# Altium integrated library Analog Devices Data Converters Analog-to-Digital Converters.IntLib: 2404 symbols (part 73 of 346)
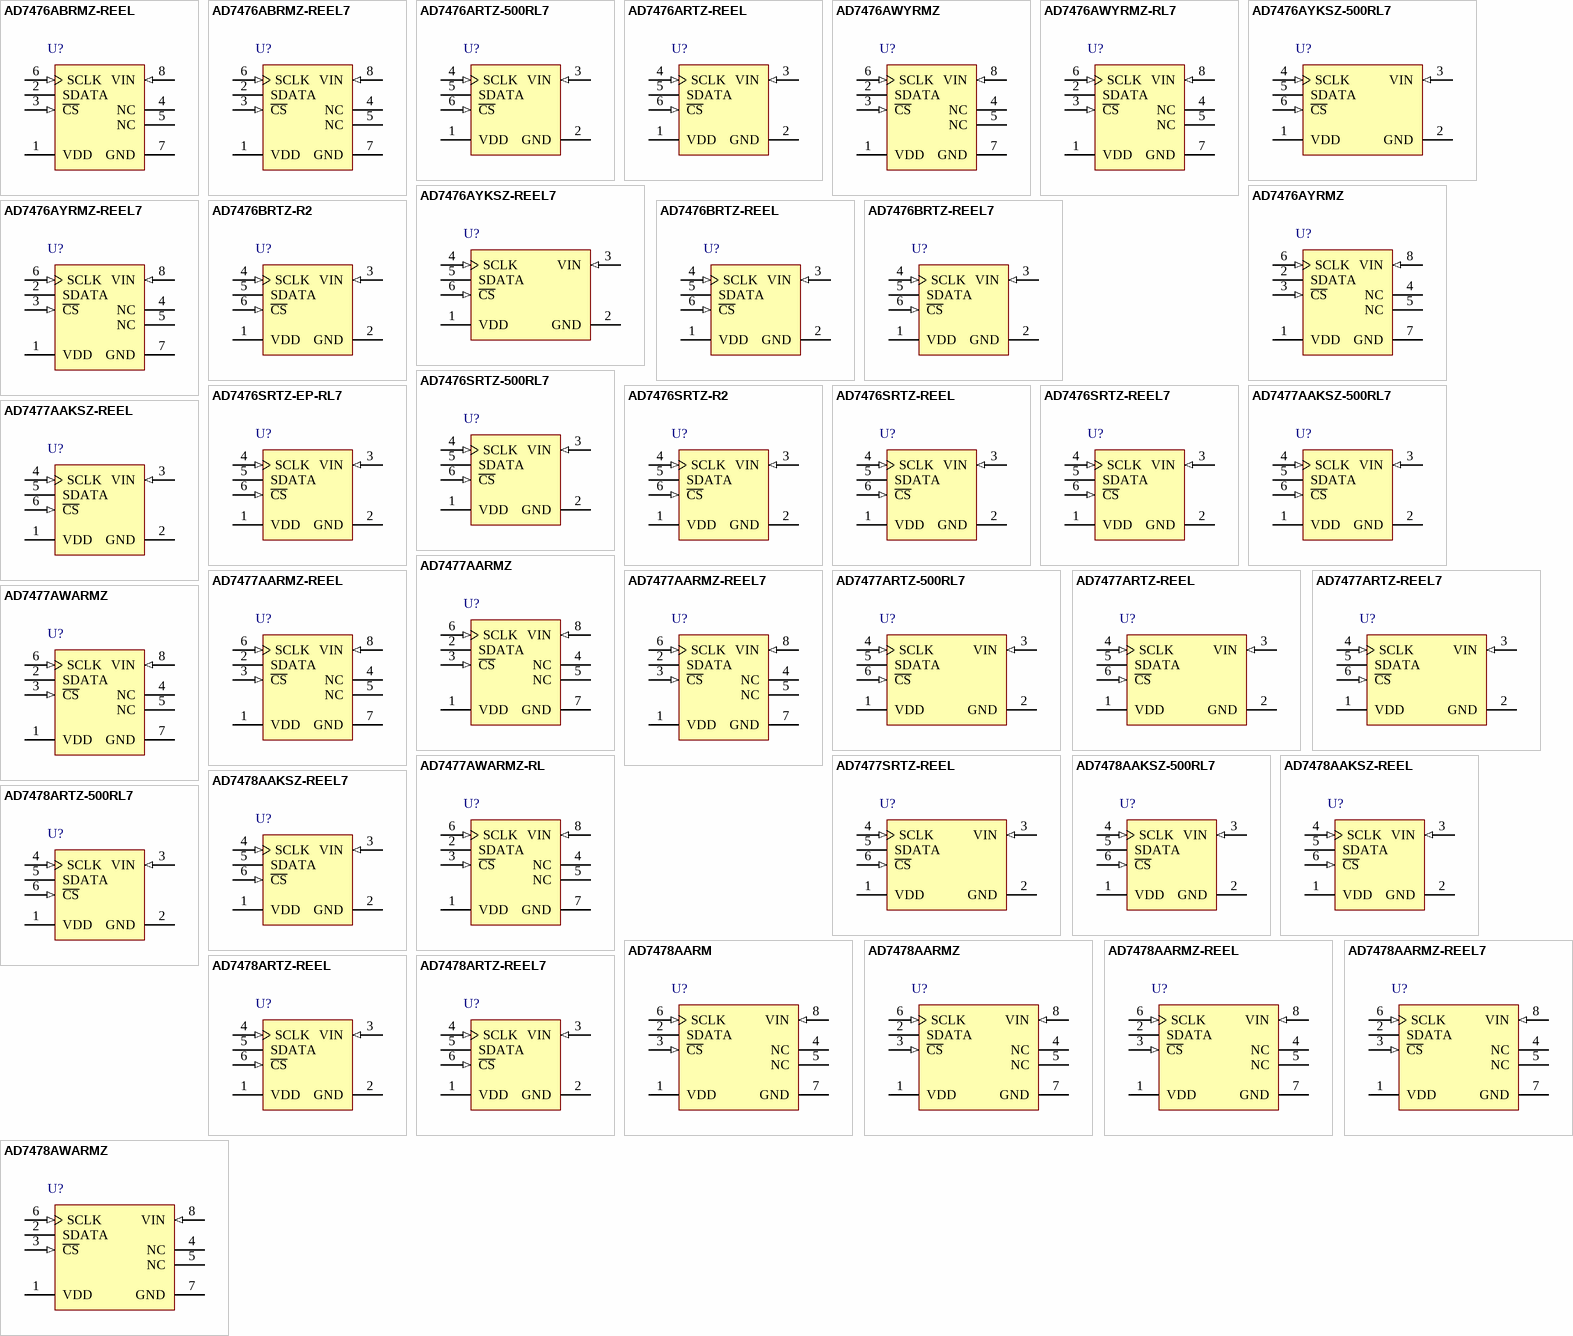
[diagram p294: symbols AD7476ABRMZ-REEL to AD7478AWARMZ]

## AD7476SRTZ-REEL7
designator U?
Single 12-Bit Analog-to-Digital Converter with Serial, SPI Interface, 1MSPS, -55 to +125 degC, RJ-6, Pb-Free, Reel; Generic Part Number: AD7476; Manufacturer: Analog Devices; PartNumber: AD7476SRTZ-REEL7; Resolution (Bits): 12; Channels: 1; Throughput Rate (SPS): 1M; Interface: Ser, SPI; DatasheetVersion: Rev.F; PackageVersion: 121608-A; PackageReference: RJ-6; PackageDescription: 6-Lead Small Outline Transistor Package [SOT-23]; Supplier 1: Digi-Key; Supplier Part Number 1: AD7476SRTZ-REEL7TR-ND; Supplier 2: Digi-Key; Supplier Part Number 2: AD7476SRTZ-REEL7CT-ND; Supplier 3: Digi-Key; Supplier Part Number 3: AD7476SRTZ-REEL7DKR-ND; Supplier 4: Newark; Supplier Part Number 4: 87H9992; Supplier 5: Mouser; Supplier Part Number 5: 584-AD7476SRTZ-R7; RoHS: Y; Packing: Reel; Mounting Technology: Surface Mount; Code_JEDEC: MO-178-AB; ComponentLink1Description: Manufacturer URL; ComponentLink1URL: http://www.analog.com/en/index.html; ComponentLink2Description: Datasheet; ComponentLink2URL: http://www.analog.com/static/imported-files/data_sheets/AD7476_7477_7478.pdf; ComponentLink3Description: Package Specification; ComponentLink3URL: http://www.analog.com/static/imported-files/packages/PKG_PDF/SOT-23(RJ)/RJ_6.pdf; ComponentLink4Description: Product URL; ComponentLink4URL: http://www.analog.com/en/analog-to-digital-converters/ad-converters/ad7476/products/product.html
footprint RJ-6_N (SOT23, 6-Leads, Body 2.9x1.6mm, Pitch 0.95mm, Lead Span 2.8mm, IPC Medium Density)
footprint RJ-6_L (SOT23, 6-Leads, Body 2.9x1.6mm, Pitch 0.95mm, Lead Span 2.8mm, IPC High Density)
footprint RJ-6_M (SOT23, 6-Leads, Body 2.9x1.6mm, Pitch 0.95mm, Lead Span 2.8mm, IPC Low Density)
pins: 1 VDD (power) "Power Supply Input. The VDD range for the AD7476/AD7477/AD7478 is from 2.35 V to 5.25 V", 2 GND (power) "Analog Ground. Ground reference point for all circuitry on the part. All analog input signals should be referred to this GND voltage", 3 VIN (in) "Analog Input. Single-ended analog input channel. The input range is 0 V to VDD", 4 SCLK (in) "Serial Clock. Logic input. SCLK provides the serial clock for accessing data from the part. This clock input is also used as the clock source for the AD7476/AD7477/AD7478 conversion process", 5 SDATA (hiz) "Data Out. Logic output. The conversion result is provided on this output as a serial data stream. The bits are clocked out on the falling edge of the SCLK input. The data stream from the AD7476 consists of four leading zeros (See Datasheet)", 6 ~{CS} (in) "Chip Select. Active low logic input. This input provides the dual function of initiating conversions on the AD7476/AD7477/AD7478 and framing the serial data transfer"

## AD7477AAKSZ-500RL7
designator U?
Single 10-Bit Analog-to-Digital Converter with Serial, SPI Interface,2.35 V, 1MSPS, -40 to +85 degC, KS-6, Pb-Free, Reel; Generic Part Number: AD7477A; Manufacturer: Analog Devices; PartNumber: AD7477AAKSZ-500RL7; Resolution (Bits): 10; Channels: 1; Throughput Rate (SPS): 1M; Interface: Ser, SPI; Automotive Qualified: Yes; DatasheetVersion: Rev.F; PackageVersion: 072809-A; PackageReference: KS-6; PackageDescription: 6-Lead Thin Shrink Small Outline Transistor Package [SC70]; Supplier 1: Digi-Key; Supplier Part Number 1: AD7477AAKSZ-500RL7TR-ND; Supplier 2: Digi-Key; Supplier Part Number 2: AD7477AAKSZ-500RL7CT-ND; Supplier 3: Digi-Key; Supplier Part Number 3: AD7477AAKSZ-500RL7DKR-ND; Supplier 4: Newark; Supplier Part Number 4: 59K4905; Supplier 5: Mouser; Supplier Part Number 5: 584-AD7477AAKSZ500R7; RoHS: Y; Packing: Reel; Mounting Technology: Surface Mount; Code_JEDEC: MO-203-AB; ComponentLink1Description: Manufacturer URL; ComponentLink1URL: http://www.analog.com/en/index.html; ComponentLink2Description: Datasheet; ComponentLink2URL: http://www.analog.com/static/imported-files/data_sheets/AD7476A_7477A_7478A.pdf; ComponentLink3Description: Package Specification; ComponentLink3URL: http://www.analog.com/static/imported-files/packages/PKG_PDF/SC70(KS)/KS_6.pdf; ComponentLink4Description: Product URL; ComponentLink4URL: http://www.analog.com/en/analog-to-digital-converters/ad-converters/ad7477a/products/product.html
footprint KS-6_N (SOT23, 6-Leads, Body 2x1.3mm, Pitch 0.65mm, Lead Span 2.1mm, IPC Medium Density)
footprint KS-6_L (SOT23, 6-Leads, Body 2x1.3mm, Pitch 0.65mm, Lead Span 2.1mm, IPC High Density)
footprint KS-6_M (SOT23, 6-Leads, Body 2x1.3mm, Pitch 0.65mm, Lead Span 2.1mm, IPC Low Density)
pins: 1 VDD (power) "Power Supply Input. The VDD range for AD7477A is from 2.35 V to 5.25 V.", 2 GND (power) "Analog Ground. Ground reference point for all circuitry on AD7476A/AD7477A/AD7478A. Refer all analog input signals to this GND voltage.", 3 VIN (in) "Analog Input. Single-ended analog input channel. The input range is 0 V to VDD.", 4 SCLK (in) "Serial Clock. Logic input. SCLK provides the serial clock for accessing data from the part. This clock input is also used as the clock source for the conversion process of AD7476A/AD7477A/AD7478A.", 5 SDATA (hiz) "Data Out. Logic output. The conversion result from AD7476A/AD7477A/AD7478A is provided on this output as a serial data stream. The bits are clocked out on the falling edge of the SCLK input. The data stream from the AD7476A (See Datasheet)", 6 ~{CS} (in) "Chip Select. Active low logic input. This input provides the dual function of initiating conversions on the AD7476A/AD7477A/AD7478A and also frames the serial data transfer."

## AD7477AAKSZ-REEL
designator U?
Single 10-Bit Analog-to-Digital Converter with Serial, SPI Interface,2.35 V, 1MSPS, -40 to +85 degC, KS-6, Pb-Free, Reel; Generic Part Number: AD7477A; Manufacturer: Analog Devices; PartNumber: AD7477AAKSZ-REEL; Resolution (Bits): 10; Channels: 1; Throughput Rate (SPS): 1M; Interface: Ser, SPI; Automotive Qualified: Yes; DatasheetVersion: Rev.F; PackageVersion: 072809-A; PackageReference: KS-6; PackageDescription: 6-Lead Thin Shrink Small Outline Transistor Package [SC70]; Supplier 1: Digi-Key; Supplier Part Number 1: AD7477AAKSZ-REEL-ND; Supplier 2: Mouser; Supplier Part Number 2: 584-AD7477AAKSZ-R; RoHS: Y; Packing: Reel; Mounting Technology: Surface Mount; Code_JEDEC: MO-203-AB; ComponentLink1Description: Manufacturer URL; ComponentLink1URL: http://www.analog.com/en/index.html; ComponentLink2Description: Datasheet; ComponentLink2URL: http://www.analog.com/static/imported-files/data_sheets/AD7476A_7477A_7478A.pdf; ComponentLink3Description: Package Specification; ComponentLink3URL: http://www.analog.com/static/imported-files/packages/PKG_PDF/SC70(KS)/KS_6.pdf; ComponentLink4Description: Product URL; ComponentLink4URL: http://www.analog.com/en/analog-to-digital-converters/ad-converters/ad7477a/products/product.html
footprint KS-6_N (SOT23, 6-Leads, Body 2x1.3mm, Pitch 0.65mm, Lead Span 2.1mm, IPC Medium Density)
footprint KS-6_L (SOT23, 6-Leads, Body 2x1.3mm, Pitch 0.65mm, Lead Span 2.1mm, IPC High Density)
footprint KS-6_M (SOT23, 6-Leads, Body 2x1.3mm, Pitch 0.65mm, Lead Span 2.1mm, IPC Low Density)
pins: 1 VDD (power) "Power Supply Input. The VDD range for AD7477A is from 2.35 V to 5.25 V.", 2 GND (power) "Analog Ground. Ground reference point for all circuitry on AD7476A/AD7477A/AD7478A. Refer all analog input signals to this GND voltage.", 3 VIN (in) "Analog Input. Single-ended analog input channel. The input range is 0 V to VDD.", 4 SCLK (in) "Serial Clock. Logic input. SCLK provides the serial clock for accessing data from the part. This clock input is also used as the clock source for the conversion process of AD7476A/AD7477A/AD7478A.", 5 SDATA (hiz) "Data Out. Logic output. The conversion result from AD7476A/AD7477A/AD7478A is provided on this output as a serial data stream. The bits are clocked out on the falling edge of the SCLK input. The data stream from the AD7476A (See Datasheet)", 6 ~{CS} (in) "Chip Select. Active low logic input. This input provides the dual function of initiating conversions on the AD7476A/AD7477A/AD7478A and also frames the serial data transfer."

## AD7477AARMZ
designator U?
Single 10-Bit Analog-to-Digital Converter with Serial, SPI Interface,2.35 V, 1MSPS, -40 to +85 degC, RM-8, Pb-Free, Tube; Generic Part Number: AD7477A; Manufacturer: Analog Devices; PartNumber: AD7477AARMZ; Resolution (Bits): 10; Channels: 1; Throughput Rate (SPS): 1M; Interface: Ser, SPI; Automotive Qualified: Yes; DatasheetVersion: Rev.F; PackageVersion: Aug-2005; PackageReference: RM-8; PackageDescription: 8-Lead Mini Small Outline Package [MSOP]; Supplier 1: Digi-Key; Supplier Part Number 1: AD7477AARMZ-ND; Supplier 2: Mouser; Supplier Part Number 2: 584-AD7477AARMZ; RoHS: Y; Packing: Tube; Mounting Technology: Surface Mount; Code_JEDEC: MO-187-AA; ComponentLink1Description: Manufacturer URL; ComponentLink1URL: http://www.analog.com/en/index.html; ComponentLink2Description: Datasheet; ComponentLink2URL: http://www.analog.com/static/imported-files/data_sheets/AD7476A_7477A_7478A.pdf; ComponentLink3Description: Package Specification; ComponentLink3URL: http://www.analog.com/static/imported-files/packages/PKG_PDF/MSOP%28RM%29/RM_8.pdf; ComponentLink4Description: Product URL; ComponentLink4URL: http://www.analog.com/en/analog-to-digital-converters/ad-converters/ad7477a/products/product.html
footprint RM-8_N (TSOP, 8-Leads, Body 3x3mm, Pitch 0.65mm, IPC Medium Density)
footprint RM-8_L (TSOP, 8-Leads, Body 3x3mm, Pitch 0.65mm, IPC High Density)
footprint RM-8_M (TSOP, 8-Leads, Body 3x3mm, Pitch 0.65mm, IPC Low Density)
pins: 1 VDD (power) "Power Supply Input. The VDD range for AD7476A/AD7477A/AD7478A is from 2.35 V to 5.25 V.", 2 SDATA (hiz) "Data Out. Logic output. The conversion result from AD7476A/AD7477A/AD7478A is provided on this output as a serial data stream. The bits are clocked out on the falling edge of the SCLK input. The data stream from the AD7476A (See Datasheet)", 3 ~{CS} (in) "Chip Select. Active low logic input. This input provides the dual function of initiating conversions on theAD7476A/AD7477A/AD7478A and also frames the serial data transfer.", 4 NC "No Connect.", 5 NC "No Connect.", 6 SCLK (in) "Serial Clock. Logic input. SCLK provides the serial clock for accessing data from the part. This clock input is also used as the clock source for the conversion process of AD7476A/AD7477A/AD7478A.", 7 GND (power) "Analog Ground. Ground reference point for all circuitry on AD7476A/AD7477A/AD7478A. Refer all analog input signals to this GND voltage.", 8 VIN (in) "Analog Input. Single-ended analog input channel. The input range is 0 V to VDD."

## AD7477AARMZ-REEL
designator U?
Single 10-Bit Analog-to-Digital Converter with Serial, SPI Interface,2.35 V, 1MSPS, -40 to +85 degC, RM-8, Pb-Free, Reel; Generic Part Number: AD7477A; Manufacturer: Analog Devices; PartNumber: AD7477AARMZ-REEL; Resolution (Bits): 10; Channels: 1; Throughput Rate (SPS): 1M; Interface: Ser, SPI; Automotive Qualified: Yes; DatasheetVersion: Rev.F; PackageVersion: Aug-2005; PackageReference: RM-8; PackageDescription: 8-Lead Mini Small Outline Package [MSOP]; Supplier 1: Digi-Key; Supplier Part Number 1: AD7477AARMZ-REEL-ND; Supplier 2: Mouser; Supplier Part Number 2: 584-AD7477AARMZ-R; RoHS: Y; Packing: Reel; Mounting Technology: Surface Mount; Code_JEDEC: MO-187-AA; ComponentLink1Description: Manufacturer URL; ComponentLink1URL: http://www.analog.com/en/index.html; ComponentLink2Description: Datasheet; ComponentLink2URL: http://www.analog.com/static/imported-files/data_sheets/AD7476A_7477A_7478A.pdf; ComponentLink3Description: Package Specification; ComponentLink3URL: http://www.analog.com/static/imported-files/packages/PKG_PDF/MSOP%28RM%29/RM_8.pdf; ComponentLink4Description: Product URL; ComponentLink4URL: http://www.analog.com/en/analog-to-digital-converters/ad-converters/ad7477a/products/product.html
footprint RM-8_N (TSOP, 8-Leads, Body 3x3mm, Pitch 0.65mm, IPC Medium Density)
footprint RM-8_L (TSOP, 8-Leads, Body 3x3mm, Pitch 0.65mm, IPC High Density)
footprint RM-8_M (TSOP, 8-Leads, Body 3x3mm, Pitch 0.65mm, IPC Low Density)
pins: 1 VDD (power) "Power Supply Input. The VDD range for AD7476A/AD7477A/AD7478A is from 2.35 V to 5.25 V.", 2 SDATA (hiz) "Data Out. Logic output. The conversion result from AD7476A/AD7477A/AD7478A is provided on this output as a serial data stream. The bits are clocked out on the falling edge of the SCLK input. The data stream from the AD7476A (See Datasheet)", 3 ~{CS} (in) "Chip Select. Active low logic input. This input provides the dual function of initiating conversions on theAD7476A/AD7477A/AD7478A and also frames the serial data transfer.", 4 NC "No Connect.", 5 NC "No Connect.", 6 SCLK (in) "Serial Clock. Logic input. SCLK provides the serial clock for accessing data from the part. This clock input is also used as the clock source for the conversion process of AD7476A/AD7477A/AD7478A.", 7 GND (power) "Analog Ground. Ground reference point for all circuitry on AD7476A/AD7477A/AD7478A. Refer all analog input signals to this GND voltage.", 8 VIN (in) "Analog Input. Single-ended analog input channel. The input range is 0 V to VDD."

## AD7477AARMZ-REEL7
designator U?
Single 10-Bit Analog-to-Digital Converter with Serial, SPI Interface,2.35 V, 1MSPS, -40 to +85 degC, RM-8, Pb-Free, Reel; Generic Part Number: AD7477A; Manufacturer: Analog Devices; PartNumber: AD7477AARMZ-REEL7; Resolution (Bits): 10; Channels: 1; Throughput Rate (SPS): 1M; Interface: Ser, SPI; Automotive Qualified: Yes; DatasheetVersion: Rev.F; PackageVersion: Aug-2005; PackageReference: RM-8; PackageDescription: 8-Lead Mini Small Outline Package [MSOP]; Supplier 1: Digi-Key; Supplier Part Number 1: AD7477AARMZ-REEL7-ND; Supplier 2: Mouser; Supplier Part Number 2: 584-AD7477AARMZ-R7; RoHS: Y; Packing: Reel; Mounting Technology: Surface Mount; Code_JEDEC: MO-187-AA; ComponentLink1Description: Manufacturer URL; ComponentLink1URL: http://www.analog.com/en/index.html; ComponentLink2Description: Datasheet; ComponentLink2URL: http://www.analog.com/static/imported-files/data_sheets/AD7476A_7477A_7478A.pdf; ComponentLink3Description: Package Specification; ComponentLink3URL: http://www.analog.com/static/imported-files/packages/PKG_PDF/MSOP%28RM%29/RM_8.pdf; ComponentLink4Description: Product URL; ComponentLink4URL: http://www.analog.com/en/analog-to-digital-converters/ad-converters/ad7477a/products/product.html
footprint RM-8_N (TSOP, 8-Leads, Body 3x3mm, Pitch 0.65mm, IPC Medium Density)
footprint RM-8_L (TSOP, 8-Leads, Body 3x3mm, Pitch 0.65mm, IPC High Density)
footprint RM-8_M (TSOP, 8-Leads, Body 3x3mm, Pitch 0.65mm, IPC Low Density)
pins: 1 VDD (power) "Power Supply Input. The VDD range for AD7476A/AD7477A/AD7478A is from 2.35 V to 5.25 V.", 2 SDATA (hiz) "Data Out. Logic output. The conversion result from AD7476A/AD7477A/AD7478A is provided on this output as a serial data stream. The bits are clocked out on the falling edge of the SCLK input. The data stream from the AD7476A (See Datasheet)", 3 ~{CS} (in) "Chip Select. Active low logic input. This input provides the dual function of initiating conversions on theAD7476A/AD7477A/AD7478A and also frames the serial data transfer.", 4 NC "No Connect.", 5 NC "No Connect.", 6 SCLK (in) "Serial Clock. Logic input. SCLK provides the serial clock for accessing data from the part. This clock input is also used as the clock source for the conversion process of AD7476A/AD7477A/AD7478A.", 7 GND (power) "Analog Ground. Ground reference point for all circuitry on AD7476A/AD7477A/AD7478A. Refer all analog input signals to this GND voltage.", 8 VIN (in) "Analog Input. Single-ended analog input channel. The input range is 0 V to VDD."

## AD7477ARTZ-500RL7
designator U?
Single 10-Bit Analog-to-Digital Converter with Serial, SPI Interface, 1MSPS, 0 to +70 degC, RJ-6, Pb-Free, Reel; Generic Part Number: AD7477; Manufacturer: Analog Devices; PartNumber: AD7477ARTZ-500RL7; Resolution (Bits): 10; Channels: 1; Throughput Rate (SPS): 1M; Interface: Ser, SPI; DatasheetVersion: Rev.F; PackageVersion: 121608-A; PackageReference: RJ-6; PackageDescription: 6-Lead Small Outline Transistor Package [SOT-23]; Supplier 1: Digi-Key; Supplier Part Number 1: AD7477ARTZ500RLTR-ND; Supplier 2: Digi-Key; Supplier Part Number 2: AD7477ARTZ500RLCT-ND; Supplier 3: Digi-Key; Supplier Part Number 3: AD7477ARTZ500RLDKR-ND; Supplier 4: Newark; Supplier Part Number 4: 59K4911; Supplier 5: Mouser; Supplier Part Number 5: 584-AD7477ARTZ-500R7; RoHS: Y; Packing: Reel; Mounting Technology: Surface Mount; Code_JEDEC: MO-178-AB; ComponentLink1Description: Manufacturer URL; ComponentLink1URL: http://www.analog.com/en/index.html; ComponentLink2Description: Datasheet; ComponentLink2URL: http://www.analog.com/static/imported-files/data_sheets/AD7476_7477_7478.pdf; ComponentLink3Description: Package Specification; ComponentLink3URL: http://www.analog.com/static/imported-files/packages/PKG_PDF/SOT-23(RJ)/RJ_6.pdf; ComponentLink4Description: Product URL; ComponentLink4URL: http://www.analog.com/en/analog-to-digital-converters/ad-converters/ad7477/products/product.html
footprint RJ-6_N (SOT23, 6-Leads, Body 2.9x1.6mm, Pitch 0.95mm, Lead Span 2.8mm, IPC Medium Density)
footprint RJ-6_L (SOT23, 6-Leads, Body 2.9x1.6mm, Pitch 0.95mm, Lead Span 2.8mm, IPC High Density)
footprint RJ-6_M (SOT23, 6-Leads, Body 2.9x1.6mm, Pitch 0.95mm, Lead Span 2.8mm, IPC Low Density)
pins: 1 VDD (power) "Power Supply Input. The VDD range for the AD7476/AD7477/AD7478 is from 2.35 V to 5.25 V.", 2 GND (power) "Analog Ground. Ground reference point for all circuitry on the part. All analog input signals should be referred to this GND voltage.", 3 VIN (in) "Analog Input. Single-ended analog input channel. The input range is 0 V to VDD.", 4 SCLK (in) "Serial Clock. Logic input. SCLK provides the serial clock for accessing data from the part. This clock input is also used as the clock source for the AD7477 conversion process.", 5 SDATA (hiz) "Data Out. Logic output. The conversion result is provided on this output as a serial data stream. The bits are clocked out on the falling edge of the SCLK input. The data stream from the AD7476 consists of four leading zeros (See Datasheet)", 6 ~{CS} (in) "Chip Select. Active low logic input. This input provides the dual function of initiating conversions on the AD7476/AD7477/AD7478 and framing the serial data transfer."

## AD7477ARTZ-REEL
designator U?
Single 10-Bit Analog-to-Digital Converter with Serial, SPI Interface, 1MSPS, 0 to +70 degC, RJ-6, Pb-Free, Reel; Generic Part Number: AD7477; Manufacturer: Analog Devices; PartNumber: AD7477ARTZ-REEL; Resolution (Bits): 10; Channels: 1; Throughput Rate (SPS): 1M; Interface: Ser, SPI; DatasheetVersion: Rev.F; PackageVersion: 121608-A; PackageReference: RJ-6; PackageDescription: 6-Lead Small Outline Transistor Package [SOT-23]; Supplier 1: Digi-Key; Supplier Part Number 1: AD7477ARTZ-REEL-ND; Supplier 2: Newark; Supplier Part Number 2: 59K4909; Supplier 3: Mouser; Supplier Part Number 3: 584-AD7477ARTZ-R; RoHS: Y; Packing: Reel; Mounting Technology: Surface Mount; Code_JEDEC: MO-178-AB; ComponentLink1Description: Manufacturer URL; ComponentLink1URL: http://www.analog.com/en/index.html; ComponentLink2Description: Datasheet; ComponentLink2URL: http://www.analog.com/static/imported-files/data_sheets/AD7476_7477_7478.pdf; ComponentLink3Description: Package Specification; ComponentLink3URL: http://www.analog.com/static/imported-files/packages/PKG_PDF/SOT-23(RJ)/RJ_6.pdf; ComponentLink4Description: Product URL; ComponentLink4URL: http://www.analog.com/en/analog-to-digital-converters/ad-converters/ad7477/products/product.html
footprint RJ-6_N (SOT23, 6-Leads, Body 2.9x1.6mm, Pitch 0.95mm, Lead Span 2.8mm, IPC Medium Density)
footprint RJ-6_L (SOT23, 6-Leads, Body 2.9x1.6mm, Pitch 0.95mm, Lead Span 2.8mm, IPC High Density)
footprint RJ-6_M (SOT23, 6-Leads, Body 2.9x1.6mm, Pitch 0.95mm, Lead Span 2.8mm, IPC Low Density)
pins: 1 VDD (power) "Power Supply Input. The VDD range for the AD7476/AD7477/AD7478 is from 2.35 V to 5.25 V.", 2 GND (power) "Analog Ground. Ground reference point for all circuitry on the part. All analog input signals should be referred to this GND voltage.", 3 VIN (in) "Analog Input. Single-ended analog input channel. The input range is 0 V to VDD.", 4 SCLK (in) "Serial Clock. Logic input. SCLK provides the serial clock for accessing data from the part. This clock input is also used as the clock source for the AD7477 conversion process.", 5 SDATA (hiz) "Data Out. Logic output. The conversion result is provided on this output as a serial data stream. The bits are clocked out on the falling edge of the SCLK input. The data stream from the AD7476 consists of four leading zeros (See Datasheet)", 6 ~{CS} (in) "Chip Select. Active low logic input. This input provides the dual function of initiating conversions on the AD7476/AD7477/AD7478 and framing the serial data transfer."

## AD7477ARTZ-REEL7
designator U?
Single 10-Bit Analog-to-Digital Converter with Serial, SPI Interface, 1MSPS, -40 to +85 degC, RJ-6, Pb-Free, Reel; Generic Part Number: AD7477; Manufacturer: Analog Devices; PartNumber: AD7477ARTZ-REEL7; Resolution (Bits): 10; Channels: 1; Throughput Rate (SPS): 1M; Interface: Ser, SPI; DatasheetVersion: Rev.F; PackageVersion: 121608-A; PackageReference: RJ-6; PackageDescription: 6-Lead Small Outline Transistor Package [SOT-23]; Supplier 1: Digi-Key; Supplier Part Number 1: AD7477ARTZ-REEL7TR-ND; Supplier 2: Digi-Key; Supplier Part Number 2: AD7477ARTZ-REEL7CT-ND; Supplier 3: Digi-Key; Supplier Part Number 3: AD7477ARTZ-REEL7DKR-ND; Supplier 4: Mouser; Supplier Part Number 4: 584-AD7477ARTZ-R7; RoHS: Y; Packing: Reel; Mounting Technology: Surface Mount; Code_JEDEC: MO-178-AB; ComponentLink1Description: Manufacturer URL; ComponentLink1URL: http://www.analog.com/en/index.html; ComponentLink2Description: Datasheet; ComponentLink2URL: http://www.analog.com/static/imported-files/data_sheets/AD7476_7477_7478.pdf; ComponentLink3Description: Package Specification; ComponentLink3URL: http://www.analog.com/static/imported-files/packages/PKG_PDF/SOT-23(RJ)/RJ_6.pdf; ComponentLink4Description: Product URL; ComponentLink4URL: http://www.analog.com/en/analog-to-digital-converters/ad-converters/ad7477/products/product.html
footprint RJ-6_N (SOT23, 6-Leads, Body 2.9x1.6mm, Pitch 0.95mm, Lead Span 2.8mm, IPC Medium Density)
footprint RJ-6_L (SOT23, 6-Leads, Body 2.9x1.6mm, Pitch 0.95mm, Lead Span 2.8mm, IPC High Density)
footprint RJ-6_M (SOT23, 6-Leads, Body 2.9x1.6mm, Pitch 0.95mm, Lead Span 2.8mm, IPC Low Density)
pins: 1 VDD (power) "Power Supply Input. The VDD range for the AD7476/AD7477/AD7478 is from 2.35 V to 5.25 V.", 2 GND (power) "Analog Ground. Ground reference point for all circuitry on the part. All analog input signals should be referred to this GND voltage.", 3 VIN (in) "Analog Input. Single-ended analog input channel. The input range is 0 V to VDD.", 4 SCLK (in) "Serial Clock. Logic input. SCLK provides the serial clock for accessing data from the part. This clock input is also used as the clock source for the AD7477 conversion process.", 5 SDATA (hiz) "Data Out. Logic output. The conversion result is provided on this output as a serial data stream. The bits are clocked out on the falling edge of the SCLK input. The data stream from the AD7476 consists of four leading zeros (See Datasheet)", 6 ~{CS} (in) "Chip Select. Active low logic input. This input provides the dual function of initiating conversions on the AD7476/AD7477/AD7478 and framing the serial data transfer."

## AD7477AWARMZ
designator U?
Single 10-Bit Analog-to-Digital Converter with Serial, SPI Interface,2.35 V, 1MSPS, -40 to +85 degC, RM-8, Pb-Free, Tube; Generic Part Number: AD7477A; Manufacturer: Analog Devices; PartNumber: AD7477AWARMZ; Resolution (Bits): 10; Channels: 1; Throughput Rate (SPS): 1M; Interface: Ser, SPI; Automotive Qualified: Yes; DatasheetVersion: Rev.F; PackageVersion: Aug-2005; PackageReference: RM-8; PackageDescription: 8-Lead Mini Small Outline Package [MSOP]; Supplier 1: Mouser; Supplier Part Number 1: N/A; RoHS: Y; Packing: Tube; Mounting Technology: Surface Mount; Code_JEDEC: MO-187-AA; ComponentLink1Description: Manufacturer URL; ComponentLink1URL: http://www.analog.com/en/index.html; ComponentLink2Description: Datasheet; ComponentLink2URL: http://www.analog.com/static/imported-files/data_sheets/AD7476A_7477A_7478A.pdf; ComponentLink3Description: Package Specification; ComponentLink3URL: http://www.analog.com/static/imported-files/packages/PKG_PDF/MSOP%28RM%29/RM_8.pdf; ComponentLink4Description: Product URL; ComponentLink4URL: http://www.analog.com/en/analog-to-digital-converters/ad-converters/ad7477a/products/product.html
footprint RM-8_N (TSOP, 8-Leads, Body 3x3mm, Pitch 0.65mm, IPC Medium Density)
footprint RM-8_L (TSOP, 8-Leads, Body 3x3mm, Pitch 0.65mm, IPC High Density)
footprint RM-8_M (TSOP, 8-Leads, Body 3x3mm, Pitch 0.65mm, IPC Low Density)
pins: 1 VDD (power) "Power Supply Input. The VDD range for AD7476A/AD7477A/AD7478A is from 2.35 V to 5.25 V.", 2 SDATA (hiz) "Data Out. Logic output. The conversion result from AD7476A/AD7477A/AD7478A is provided on this output as a serial data stream. The bits are clocked out on the falling edge of the SCLK input. The data stream from the AD7476A (See Datasheet)", 3 ~{CS} (in) "Chip Select. Active low logic input. This input provides the dual function of initiating conversions on theAD7476A/AD7477A/AD7478A and also frames the serial data transfer.", 4 NC "No Connect.", 5 NC "No Connect.", 6 SCLK (in) "Serial Clock. Logic input. SCLK provides the serial clock for accessing data from the part. This clock input is also used as the clock source for the conversion process of AD7476A/AD7477A/AD7478A.", 7 GND (power) "Analog Ground. Ground reference point for all circuitry on AD7476A/AD7477A/AD7478A. Refer all analog input signals to this GND voltage.", 8 VIN (in) "Analog Input. Single-ended analog input channel. The input range is 0 V to VDD."

## AD7477AWARMZ-RL
designator U?
Single 10-Bit Analog-to-Digital Converter with Serial, SPI Interface,2.35 V, 1MSPS, -40 to +85 degC, RM-8, Pb-Free, Reel; Generic Part Number: AD7477A; Manufacturer: Analog Devices; PartNumber: AD7477AWARMZ-RL; Resolution (Bits): 10; Channels: 1; Throughput Rate (SPS): 1M; Interface: Ser, SPI; Automotive Qualified: Yes; DatasheetVersion: Rev.F; PackageVersion: Aug-2005; PackageReference: RM-8; PackageDescription: 8-Lead Mini Small Outline Package [MSOP]; Supplier 1: Mouser; Supplier Part Number 1: N/A; RoHS: Y; Packing: Reel; Mounting Technology: Surface Mount; Code_JEDEC: MO-187-AA; ComponentLink1Description: Manufacturer URL; ComponentLink1URL: http://www.analog.com/en/index.html; ComponentLink2Description: Datasheet; ComponentLink2URL: http://www.analog.com/static/imported-files/data_sheets/AD7476A_7477A_7478A.pdf; ComponentLink3Description: Package Specification; ComponentLink3URL: http://www.analog.com/static/imported-files/packages/PKG_PDF/MSOP%28RM%29/RM_8.pdf; ComponentLink4Description: Product URL; ComponentLink4URL: http://www.analog.com/en/analog-to-digital-converters/ad-converters/ad7477a/products/product.html
footprint RM-8_N (TSOP, 8-Leads, Body 3x3mm, Pitch 0.65mm, IPC Medium Density)
footprint RM-8_L (TSOP, 8-Leads, Body 3x3mm, Pitch 0.65mm, IPC High Density)
footprint RM-8_M (TSOP, 8-Leads, Body 3x3mm, Pitch 0.65mm, IPC Low Density)
pins: 1 VDD (power) "Power Supply Input. The VDD range for AD7476A/AD7477A/AD7478A is from 2.35 V to 5.25 V.", 2 SDATA (hiz) "Data Out. Logic output. The conversion result from AD7476A/AD7477A/AD7478A is provided on this output as a serial data stream. The bits are clocked out on the falling edge of the SCLK input. The data stream from the AD7476A (See Datasheet)", 3 ~{CS} (in) "Chip Select. Active low logic input. This input provides the dual function of initiating conversions on theAD7476A/AD7477A/AD7478A and also frames the serial data transfer.", 4 NC "No Connect.", 5 NC "No Connect.", 6 SCLK (in) "Serial Clock. Logic input. SCLK provides the serial clock for accessing data from the part. This clock input is also used as the clock source for the conversion process of AD7476A/AD7477A/AD7478A.", 7 GND (power) "Analog Ground. Ground reference point for all circuitry on AD7476A/AD7477A/AD7478A. Refer all analog input signals to this GND voltage.", 8 VIN (in) "Analog Input. Single-ended analog input channel. The input range is 0 V to VDD."

## AD7477SRTZ-REEL
designator U?
Single 10-Bit Analog-to-Digital Converter with Serial, SPI Interface, 1MSPS, -55 to +125 degC, RJ-6, Pb-Free, Reel; Generic Part Number: AD7477; Manufacturer: Analog Devices; PartNumber: AD7477SRTZ-REEL; Resolution (Bits): 10; Channels: 1; Throughput Rate (SPS): 1M; Interface: Ser, SPI; DatasheetVersion: Rev.F; PackageVersion: 121608-A; PackageReference: RJ-6; PackageDescription: 6-Lead Small Outline Transistor Package [SOT-23]; Supplier 1: Digi-Key; Supplier Part Number 1: AD7477SRTZ-REELTR-ND; Supplier 2: Digi-Key; Supplier Part Number 2: AD7477SRTZ-REELCT-ND; Supplier 3: Digi-Key; Supplier Part Number 3: AD7477SRTZ-REELDKR-ND; Supplier 4: Mouser; Supplier Part Number 4: 584-AD7477SRTZ-R; RoHS: Y; Packing: Reel; Mounting Technology: Surface Mount; Code_JEDEC: MO-178-AB; ComponentLink1Description: Manufacturer URL; ComponentLink1URL: http://www.analog.com/en/index.html; ComponentLink2Description: Datasheet; ComponentLink2URL: http://www.analog.com/static/imported-files/data_sheets/AD7476_7477_7478.pdf; ComponentLink3Description: Package Specification; ComponentLink3URL: http://www.analog.com/static/imported-files/packages/PKG_PDF/SOT-23(RJ)/RJ_6.pdf; ComponentLink4Description: Product URL; ComponentLink4URL: http://www.analog.com/en/analog-to-digital-converters/ad-converters/ad7477/products/product.html
footprint RJ-6_N (SOT23, 6-Leads, Body 2.9x1.6mm, Pitch 0.95mm, Lead Span 2.8mm, IPC Medium Density)
footprint RJ-6_L (SOT23, 6-Leads, Body 2.9x1.6mm, Pitch 0.95mm, Lead Span 2.8mm, IPC High Density)
footprint RJ-6_M (SOT23, 6-Leads, Body 2.9x1.6mm, Pitch 0.95mm, Lead Span 2.8mm, IPC Low Density)
pins: 1 VDD (power) "Power Supply Input. The VDD range for the AD7476/AD7477/AD7478 is from 2.35 V to 5.25 V.", 2 GND (power) "Analog Ground. Ground reference point for all circuitry on the part. All analog input signals should be referred to this GND voltage.", 3 VIN (in) "Analog Input. Single-ended analog input channel. The input range is 0 V to VDD.", 4 SCLK (in) "Serial Clock. Logic input. SCLK provides the serial clock for accessing data from the part. This clock input is also used as the clock source for the AD7477 conversion process.", 5 SDATA (hiz) "Data Out. Logic output. The conversion result is provided on this output as a serial data stream. The bits are clocked out on the falling edge of the SCLK input. The data stream from the AD7476 consists of four leading zeros (See Datasheet)", 6 ~{CS} (in) "Chip Select. Active low logic input. This input provides the dual function of initiating conversions on the AD7476/AD7477/AD7478 and framing the serial data transfer."